# Altium footprint library CAP0805.PcbLib: 1 footprints
Each footprint in its own frame and in the unit in brackets; x right, y up, seen from the top. Pads: shape width x height; smd on the part's side, far side on the other; paste and mask are expansions set on the pad; w line width, h text height; cw(c..) or ccw(c..) is an arc to the next point about the centre after c.
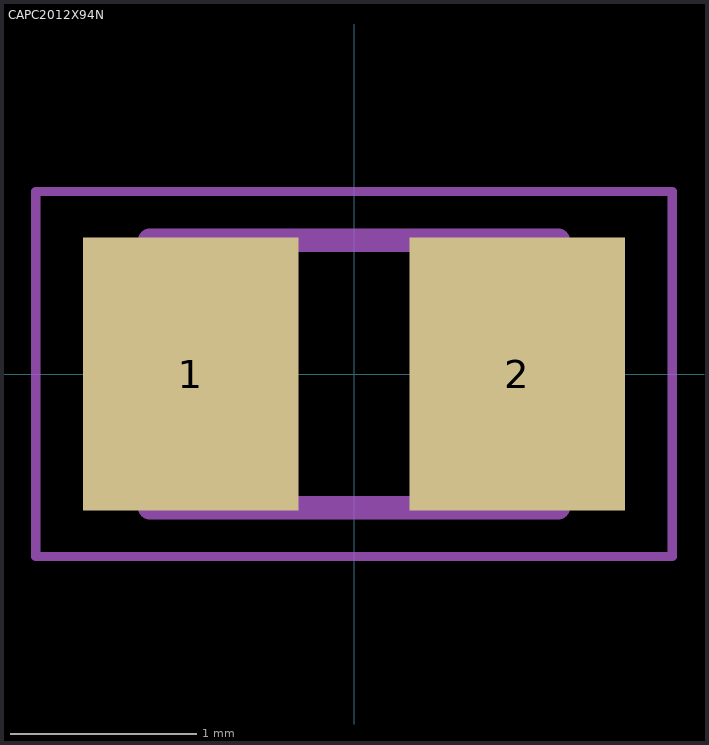
[diagram p0: the footprint, top view; thin cyan lines are the x and y axes]

## CAPC2012X94N [mm]
pads (2):
  rect 1.16x1.47 smd: 1(-0.88,0) 2(0.88,0)
Mechanical 13:
  lines w0.127: -1.1,-0.72 1.1,-0.72 1.1,0.72 -1.1,0.72 -1.1,-0.72
Mechanical 15:
  lines w0.05: -1.713,-0.983 1.713,-0.983 1.713,0.983 -1.713,0.983 -1.713,-0.983
3D body "LD033C153KAB2A.STEP": height 0.79, standoff -0.02, extent -0.8,-0.45 0.8,0.45